# Altium footprint library SON45P300X80_HS-13N.PcbLib: 1 footprints
Each footprint in its own frame and in the unit in brackets; x right, y up, seen from the top. Pads: shape width x height; smd on the part's side, far side on the other; paste and mask are expansions set on the pad; w line width, h text height; cw(c..) or ccw(c..) is an arc to the next point about the centre after c.
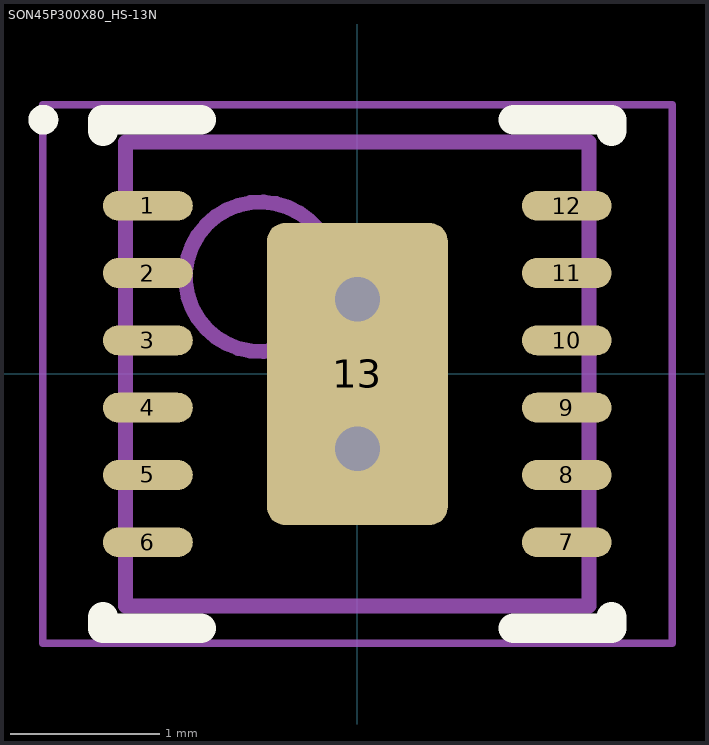
[diagram p0: the footprint, top view; thin cyan lines are the x and y axes]

## SON45P300X80_HS-13N [mm] "SON, 12-Leads, Body 3.00x3.00mm, Pitch 0.45mm, Thermal Pad 2.02x1.21mm, IPC Medium Density"
height 0.8
pads (13):
  rrect100% 0.6x0.2 smd mask+0.05: 1(-1.4,1.125) 2(-1.4,0.675) 3(-1.4,0.225) 4(-1.4,-0.225) 5(-1.4,-0.675) 6(-1.4,-1.125) 7(1.4,-1.125) 8(1.4,-0.675) 9(1.4,-0.225) 10(1.4,0.225) 11(1.4,0.675) 12(1.4,1.125)
  rrect20% 1.21x2.02 smd paste-3 mask+0.05: 13(0,0)
via 0,0.5 diameter 0.6 hole 0.3
via 0,-0.5 diameter 0.6 hole 0.3
Top Overlay:
  circle w0.1: c-2.1,1.7 r0.05
  lines w0.2: -1.7,-1.625 -1.7,-1.7 -1.045,-1.7 ; -1.7,1.625 -1.7,1.7 -1.045,1.7 ; 1.045,-1.7 1.7,-1.7 1.7,-1.625 ; 1.045,1.7 1.7,1.7 1.7,1.625
Top Paste:
  rectangle: -0.575,0.075 0.575,0.975
  region: 0.575,-0.075 -0.575,-0.075 -0.575,-0.975 0.575,-0.975
Top Assembly:
  circle w0.1: c-0.65,0.65 r0.5
  lines w0.1: -1.55,-1.55 -1.55,1.55 1.55,1.55 1.55,-1.55 -1.55,-1.55
Top Courtyard:
  lines w0.05: -2.105,-1.8 -2.105,1.8 2.105,1.8 2.105,-1.8 -2.105,-1.8
  lines w0.1: -0.5,0 0.5,0 ; 0,-0.5 0,0.5
3D body "SON45P300X80_HS-13N.step": height 0.8, standoff 0, extent -1.63,-1.55 1.63,1.55